# Altium footprint library 其他类型封装库.PcbLib: 22 footprints (part 1 of 2)
Each footprint in its own frame and in the unit in brackets; x right, y up, seen from the top. Pads: shape width x height; smd on the part's side, far side on the other; paste and mask are expansions set on the pad; w line width, h text height; cw(c..) or ccw(c..) is an arc to the next point about the centre after c.
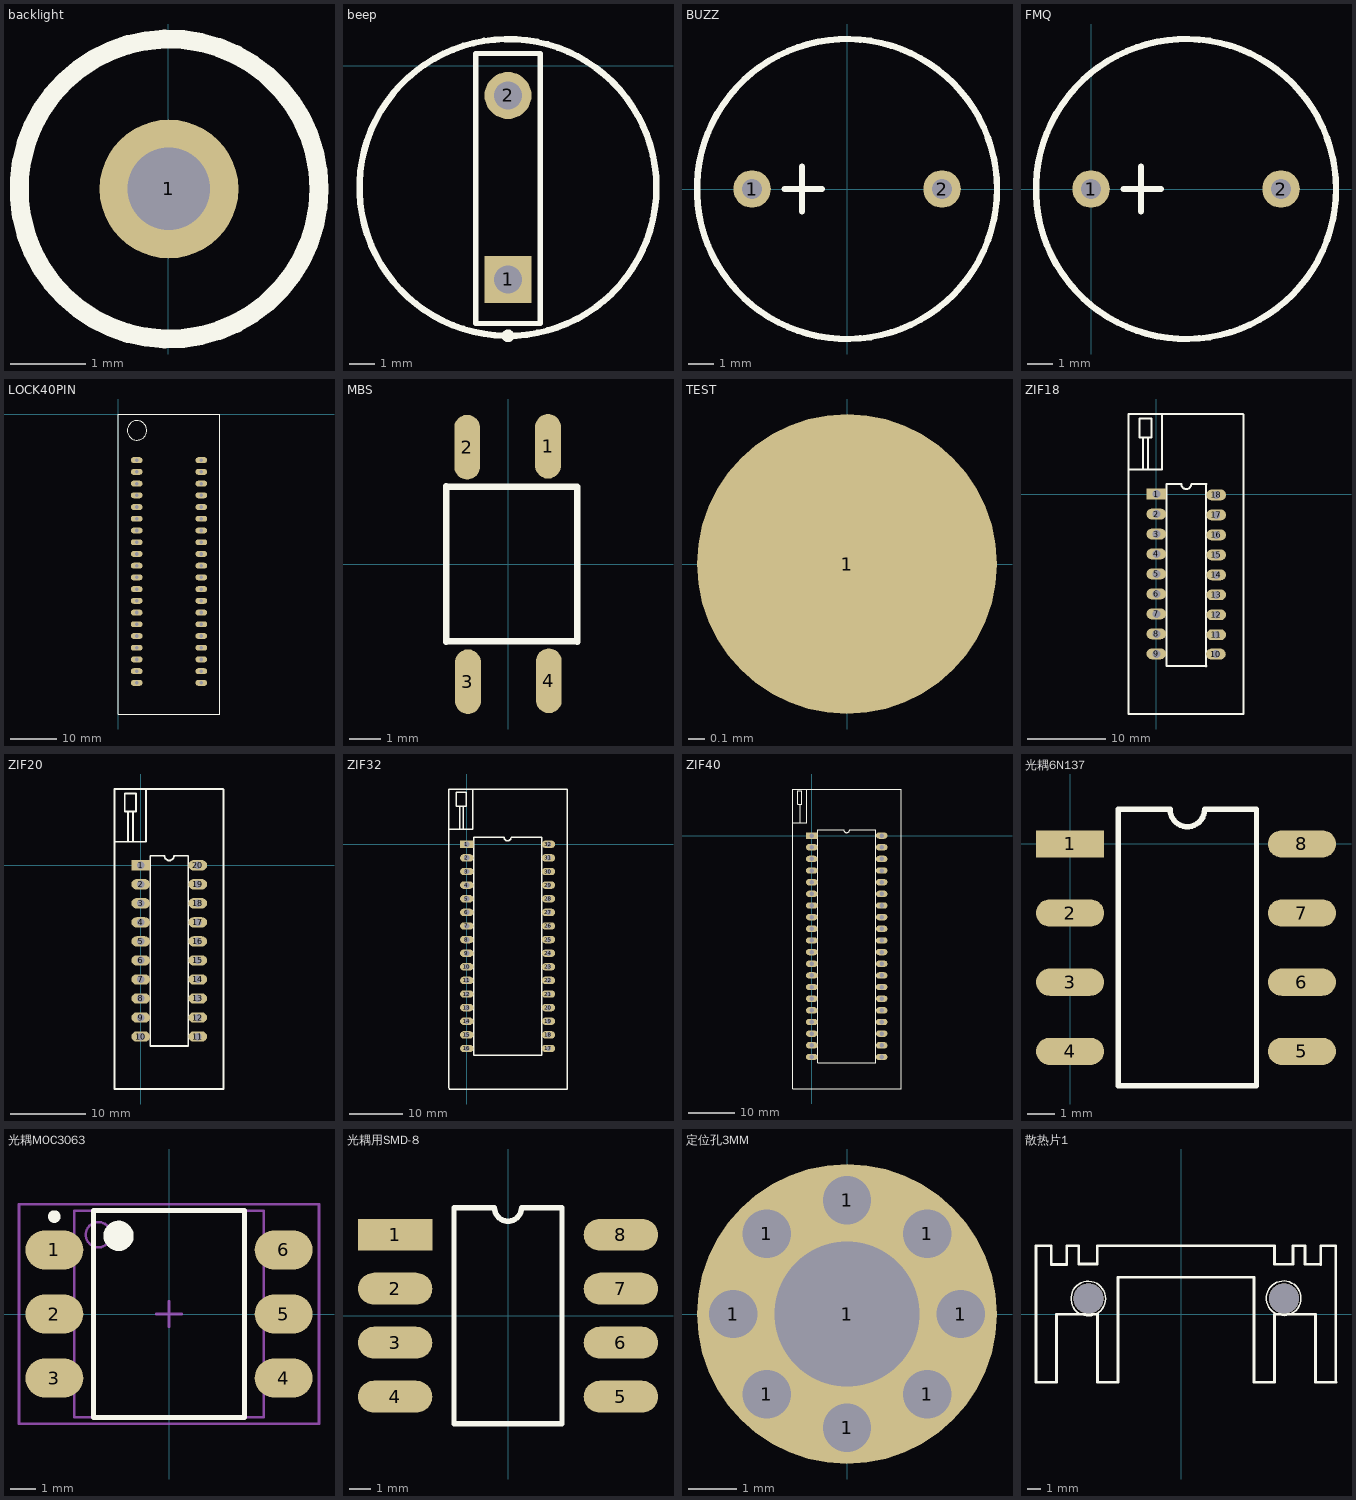
[diagram p0: the footprints below, top view; thin cyan lines are the x and y axes]

## backlight [mm]
height 6.35
pads (1):
  round 1.85 hole 1.1: 1(0.009,2.5)
Top Overlay:
  circle w0.254: c0.009,2.5 r2

## beep [mm]
height 9
pads (2):
  rect 1.85x1.85 hole 1.1: 1(14.213,-8.409)
  round 1.85 hole 1.1: 2(14.213,-1.17)
Top Overlay:
  circle w0.254: c14.213,-4.79 r5.842
  circle w0.25: c14.214,-10.63 r0.125
  lines w0.2: 12.943,-10.149 15.483,-10.149 15.483,-1.589 15.483,0.481 12.943,0.481 12.943,-1.589 12.943,-10.149

## BUZZ [mm]
pads (2):
  round 1.5 hole 0.8: 1(-3.8,0) 2(3.8,0)
Top Overlay:
  circle w0.254: c-0.001,0 r6.001
  lines w0.254: -2.5,0 -1,0 ; -1.8,-0.9 -1.8,0.9
3D body: height 9.65, standoff -4.5, extent -9.527,-6 5.927,6

## FMQ [mm]
pads (2):
  round 1.5 hole 0.8: 1(0,0) 2(7.6,0)
Top Overlay:
  circle w0.254: c3.799,0 r6.001
  lines w0.254: 1.3,0 2.8,0 ; 2,-0.9 2,0.9
3D body: height 9.65, standoff -4.5, extent -5.727,-6 9.727,6

## LOCK40PIN [mm] "green lock IC"
pads (40):
  oval 2.54x1.27 hole 0.8: 1(4,-10) 2(4,-12.54) 3(4,-15.08) 4(4,-17.62) 5(4,-20.16) 6(4,-22.7) 7(4,-25.24) 8(4,-27.78) 9(4,-30.32) 10(4,-32.86) 11(4,-35.4) 12(4,-37.94) 13(4,-40.48) 14(4,-43.02) 15(4,-45.56) 16(4,-48.1) 17(4,-50.64) 18(4,-53.18) 19(4,-55.72) 20(4,-58.26) 21(18,-58.26) 22(18,-55.72) 23(18,-53.18) 24(18,-50.64) 25(18,-48.1) 26(18,-45.56) 27(18,-43.02) 28(18,-40.48) 29(18,-37.94) 30(18,-35.4) 31(18,-32.86) 32(18,-30.32) 33(18,-27.78) 34(18,-25.24) 35(18,-22.7) 36(18,-20.16) 37(18,-17.62) 38(18,-15.08) 39(18,-12.54) 40(18,-10)
Top Overlay:
  circle w0.254: c4.064,-3.556 r2.095
  lines w0.254: 0,-65 22,-65 22,0 0,0 0,-65

## MBS [mil]
pads (4):
  oval 31.87x80 smd: 1(49.5,145.5) 2(-50.5,144.5) 3(-49.5,-145.5) 4(50.5,-144.5)
Top Overlay:
  lines w7.87: -76.5,-96.5 -76.5,96.5 ; -76.5,95.5 85.5,95.5 ; -75.5,-95.5 85.5,-95.5 ; 85.5,-96.5 85.5,94.5
3D body: height 114.17, standoff 0.11, extent -97.45,-126.61 97.43,136.6

## TEST [mil]
pads (1):
  round 70 smd: 1(0,0)

## ZIF18 [mm]
pads (18):
  rect 2.5x1.38 hole 1: 1(0,0)
  oval 2.5x1.38 hole 1: 2(0,-2.54) 3(0,-5.08) 4(0,-7.62) 5(0,-10.16) 6(0,-12.7) 7(0,-15.24) 8(0,-17.78) 9(0,-20.32) 10(7.578,-20.354) 11(7.62,-17.894) 12(7.62,-15.354) 13(7.62,-12.814) 14(7.62,-10.274) 15(7.62,-7.734) 16(7.62,-5.194) 17(7.62,-2.654) 18(7.62,-0.114)
Top Overlay:
  lines w0.254: -3.535,-27.974 11.007,-27.974 ; -3.535,-27.821 -3.522,-18.236 -3.522,-7.112 -3.522,10.186 -3.252,10.186 11.022,10.186 ; -3.522,3.148 0.726,3.148 0.726,10.15 ; -1.686,3.238 -1.686,7.198 ; -1.038,3.148 -1.038,7.198 ; 6.346,-21.916 6.346,1.249 ; 6.35,-21.895 1.27,-21.895 1.27,1.27 3.175,1.27 ccw(c3.81,1.27) 4.445,1.27 6.35,1.27 ; 11.058,-27.974 11.076,-17.984 11.076,-6.986 11.076,10.132 ; -2.136,7.216 -2.118,7.198 -0.606,7.198 -0.606,9.574 -0.642,9.61 -2.136,9.61 -2.136,7.216

## ZIF20 [mm]
pads (20):
  rect 2.5x1.38 hole 1: 1(0,0)
  oval 2.5x1.38 hole 1: 2(0,-2.54) 3(0,-5.08) 4(0,-7.62) 5(0,-10.16) 6(0,-12.7) 7(0,-15.24) 8(0,-17.78) 9(0,-20.32) 10(0,-22.86) 11(7.62,-22.86) 12(7.62,-20.32) 13(7.62,-17.78) 14(7.62,-15.24) 15(7.62,-12.7) 16(7.62,-10.16) 17(7.62,-7.62) 18(7.62,-5.08) 19(7.62,-2.54) 20(7.62,0)
Top Overlay:
  lines w0.254: -3.522,-29.828 -3.522,-18.236 -3.522,-7.112 -3.522,10.186 -3.252,10.186 11.022,10.186 ; -3.522,3.148 0.726,3.148 0.726,10.15 ; -3.486,-29.864 7.602,-29.864 9.87,-29.864 11.04,-29.864 ; -1.686,3.238 -1.686,7.198 ; -1.038,3.148 -1.038,7.198 ; 11.076,-29.828 11.076,-17.984 11.076,-6.986 11.076,10.132 ; -2.136,7.216 -2.118,7.198 -0.606,7.198 -0.606,9.574 -0.642,9.61 -2.136,9.61 -2.136,7.216 ; 1.27,-24.13 6.35,-24.13 6.35,1.27 4.445,1.27 cw(c3.81,1.27) 3.175,1.27 1.27,1.27 1.27,-24.13

## ZIF32 [mm]
pads (32):
  rect 2.5x1.38 hole 1: 1(0,0)
  oval 2.5x1.38 hole 1: 2(0,-2.54) 3(0,-5.08) 4(0,-7.62) 5(0,-10.16) 6(0,-12.7) 7(0,-15.24) 8(0,-17.78) 9(0,-20.32) 10(0,-22.86) 11(0,-25.4) 12(0,-27.94) 13(0,-30.48) 14(0,-33.02) 15(0,-35.56) 16(0,-38.1) 17(15.24,-38.1) 18(15.24,-35.56) 19(15.24,-33.02) 20(15.24,-30.48) 21(15.24,-27.94) 22(15.24,-25.4) 23(15.24,-22.86) 24(15.24,-20.32) 25(15.24,-17.78) 26(15.24,-15.24) 27(15.24,-12.7) 28(15.24,-10.16) 29(15.24,-7.62) 30(15.24,-5.08) 31(15.24,-2.54) 32(15.24,0)
Top Overlay:
  lines w0.254: -3.322,2.794 1.034,2.794 1.088,2.848 1.088,10.318 ; -3.07,10.318 18.71,10.318 18.71,-2.354 18.71,-7.97 18.71,-45.662 -3.304,-45.662 -3.322,-45.23 -3.322,-9.734 -3.322,-2.444 -3.322,9.922 -3.322,10.318 -2.242,10.318 ; -1.324,2.794 -1.324,7.078 ; -0.694,2.794 -0.694,7.078 ; -1.99,7.078 -1.99,9.706 -0.118,9.706 -0.118,7.078 -1.99,7.078 ; 1.27,-39.37 13.97,-39.37 13.97,1.27 8.255,1.27 cw(c7.62,1.27) 6.985,1.27 1.27,1.27 1.27,-39.37

## ZIF40 [mm]
pads (40):
  rect 2.5x1.38 hole 1: 1(0,0)
  oval 2.5x1.38 hole 1: 2(0,-2.54) 3(0,-5.08) 4(0,-7.62) 5(0,-10.16) 6(0,-12.7) 7(0,-15.24) 8(0,-17.78) 9(0,-20.32) 10(0,-22.86) 11(0,-25.4) 12(0,-27.94) 13(0,-30.48) 14(0,-33.02) 15(0,-35.56) 16(0,-38.1) 17(0,-40.64) 18(0,-43.18) 19(0,-45.72) 20(0,-48.26) 21(15.24,-48.26) 22(15.24,-45.72) 23(15.24,-43.18) 24(15.24,-40.64) 25(15.24,-38.1) 26(15.24,-35.56) 27(15.24,-33.02) 28(15.24,-30.48) 29(15.24,-27.94) 30(15.24,-25.4) 31(15.24,-22.86) 32(15.24,-20.32) 33(15.24,-17.78) 34(15.24,-15.24) 35(15.24,-12.7) 36(15.24,-10.16) 37(15.24,-7.62) 38(15.24,-5.08) 39(15.24,-2.54) 40(15.24,0)
Top Overlay:
  lines w0.254: -4.191,0 -4.191,10.16 19.558,10.16 19.558,0 19.558,-55.245 -1.397,-55.245 ; -4.191,0.762 -4.191,-55.245 -1.27,-55.245 ; -4.064,2.794 -1.143,2.794 -1.143,4.953 -1.143,10.16 ; -2.54,2.794 -2.54,6.858 ; -2.159,6.985 -2.159,6.858 ; -2.159,6.858 -3.048,6.858 -3.048,9.779 -2.159,9.779 -2.159,6.858 ; 1.27,-49.53 13.97,-49.53 13.97,1.27 8.255,1.27 cw(c7.62,1.27) 6.985,1.27 1.27,1.27 1.27,-49.53

## 光耦6N137 [mm]
pads (8):
  rect 2.5x1 smd: 1(0,0)
  oval 2.5x1 smd: 2(0,-2.54) 3(0,-5.08) 4(0,-7.62) 5(8.52,-7.62) 6(8.52,-5.08) 7(8.52,-2.54) 8(8.52,0)
Top Overlay:
  lines w0.2: 1.77,-8.89 1.77,1.27 3.675,1.27 ccw(c4.31,1.27) 4.945,1.27 6.85,1.27 6.85,-8.89 1.77,-8.89

## 光耦MOC3063 [mm] "SOP, 6-Leads, Body 8.2x7.5mm (max), Pitch 2.54mm, IPC Medium Density"
height 2.65
pads (6):
  oval 2.3x1.55 smd: 1(-4.55,2.54) 2(-4.55,0) 3(-4.55,-2.54) 4(4.55,-2.54) 5(4.55,0) 6(4.55,2.54)
Top Overlay:
  circle w0.6: c-2,3.1 r0.3
  circle w0.25: c-4.55,3.865 r0.125
  lines w0.2: -3,-4.1 3,-4.1 3,4.1 -3,4.1 -3,-4.1
Mechanical 13:
  circle w0.1: c-2.8,3.145 r0.5
  lines w0.1: -3.75,-4.095 3.75,-4.095 3.75,4.095 -3.75,4.095 -3.75,-4.095
Mechanical 15:
  lines w0.1: -0.5,0 0.5,0 ; 0,-0.5 0,0.5 ; -5.95,-4.35 5.95,-4.35 5.95,4.35 -5.95,4.35 -5.95,-4.35
3D body: height 2.65, standoff 0.1, extent -3.75,-4.095 3.75,4.095

## 光耦用SMD-8 [mm]
pads (8):
  rect 3.5x1.5 smd: 1(-5.31,3.81)
  oval 3.5x1.5 smd: 2(-5.31,1.27) 3(-5.31,-1.27) 4(-5.31,-3.81) 5(5.31,-3.81) 6(5.31,-1.27) 7(5.31,1.27) 8(5.31,3.81)
Top Overlay:
  lines w0.254: -2.54,-5.08 -2.54,5.08 -0.635,5.08 ccw(c0,5.08) 0.635,5.08 2.54,5.08 2.54,-5.08 -2.54,-5.08
3D body: height 4.85, standoff -0.03, extent -6.306,-5.587 6.103,5.563

## 定位孔3MM [mm]
pads (9):
  round 1 hole 1: 1(-2.35,0) 1(-1.662,-1.662) 1(-1.662,1.662) 1(0,-2.35) 1(0,2.35) 1(1.662,-1.662) 1(1.662,1.662) 1(2.35,0)
  round 6.2 hole 3: 1(0,0)

## 散热片1 [mm]
via 7.51,1.15 diameter 2.2 hole 2.2
via -6.8,1.13 diameter 2.2 hole 2.2
Top Overlay:
  circle w0.1: c7.484,1.16 r1.266
  circle w0.1: c-6.826,1.13 r1.266
  lines w0.2: -9.16,-0.01 -9.16,-5 -10.66,-5 -10.66,5 -9.55,5 -9.55,3.64 -8.41,3.64 -8.4,3.65 ; -9.12,-0.01 -6.15,-0.01 -6.15,-5 ; -8.4,3.63 -8.4,5 -7.52,5 -7.52,3.67 -6.17,3.67 -6.17,4.98 ; -6.15,-1.05 -6.15,-5 ; -6.15,5 6.81,5 ; -4.66,-5 -4.66,2.69 5.31,2.69 5.31,-5 6.81,-5 6.81,-0.01 ; -4.65,-5 -6.15,-5 ; 6.82,5.01 6.82,3.65 8.17,3.65 8.17,5.01 9.05,5.01 9.05,3.65 10.19,3.65 ; 6.85,-0.01 9.82,-0.01 9.82,-5 ; 9.82,-1.05 9.82,-5 ; 10.2,3.64 10.2,5 11.31,5 11.31,-5 ; 11.32,-5 9.82,-5